# EAGLE library part IMU-LSM6DSO (library custom)
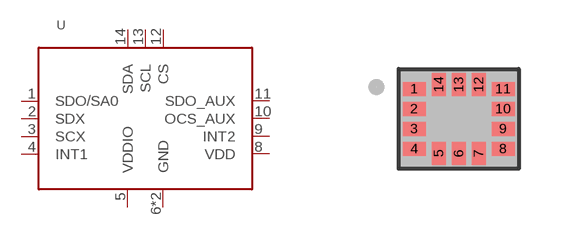
[diagram p0: symbol with the pads of IMU-LSM6DSOXTR; footprint IMU-LSM6DSOXTR]

Designator prefix U

## IMU-LSM6DSO-LSM6DSOXTR (CREATOR: Pranav; DIST: Digikey; DISTPN: 497-18367-1-ND)  [IMU-LSM6DSOXTR]
1  SDO/SA0
2  SDX
3  SCX
4  INT1
5  VDDIO
6  GND
7  GND
8  VDD
9  INT2
10  OCS_AUX
11  SDO_AUX
12  CS
13  SCL
14  SDA

## Footprint IMU-LSM6DSOXTR (pad centres in mm)
smd 0.575 x 0.35: 1 -1.113,0.75; 2 -1.113,0.25; 3 -1.113,-0.25; 4 -1.113,-0.75; 8 1.113,-0.75; 9 1.113,-0.25; 10 1.113,0.25; 11 1.113,0.75
smd 0.35 x 0.575: 5 -0.5,-0.863; 6 0,-0.863; 7 0.5,-0.863; 12 0.5,0.863; 13 0,0.863; 14 -0.5,0.863